# Altium schematic symbol library CN_BAT_CLIP.SchLib: 2 symbols
Pins are listed as number, name and electrical type; pins without a type are passive.

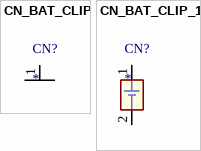
[diagram p0: symbols CN_BAT_CLIP to CN_BAT_CLIP_1]

## CN_BAT_CLIP
designator CN?
pins: 1

## CN_BAT_CLIP_1
designator CN?
pins: 1, 2